# Altium footprint library 测试点.PcbLib: 1 footprints
Each footprint in its own frame and in the unit in brackets; x right, y up, seen from the top. Pads: shape width x height; smd on the part's side, far side on the other; paste and mask are expansions set on the pad; w line width, h text height; cw(c..) or ccw(c..) is an arc to the next point about the centre after c.
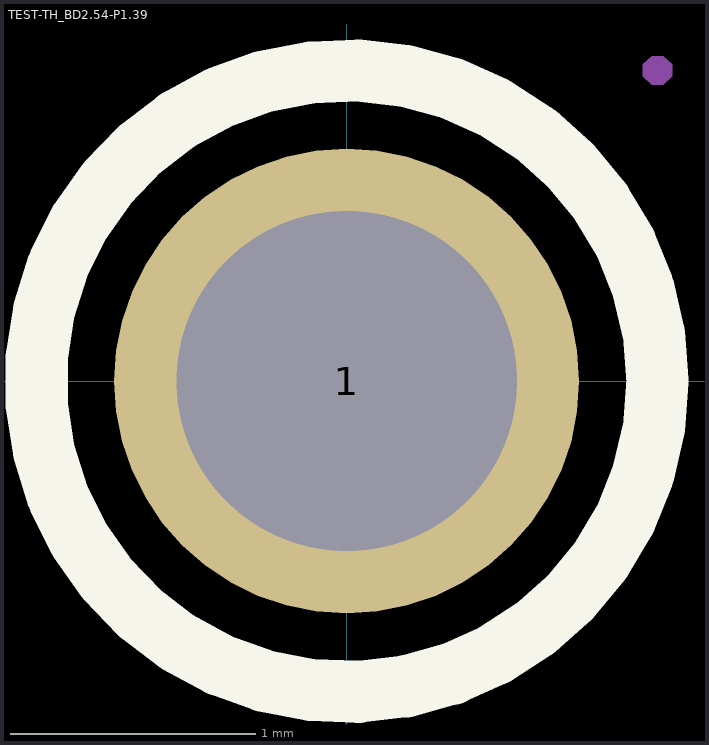
[diagram p0: the footprint, top view; thin cyan lines are the x and y axes]

## TEST-TH_BD2.54-P1.39 [mm]
pads (1):
  round 1.9 hole 1.39: 1(0,0)
Top Overlay:
  circle w0.254: c0,0 r1.27
Mechanical 15:
  region: -0.695,0.25 0.695,0.25 0.695,-0.25 -0.695,-0.25
  region: 1.33,1.27 1.329,1.294 1.294,1.328 1.246,1.328 1.211,1.294 1.21,1.27 1.211,1.246 1.246,1.212 1.294,1.212 1.329,1.246 1.33,1.27
  lines w0.051: -1.27,0 ccw(c0,0) 1.27,0 ccw(c0,0) -1.27,0